# Altium schematic symbol library Passive Components.SchLib: 3 symbols
Pins are listed as number, name and electrical type; pins without a type are passive.

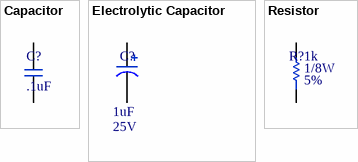
[diagram p0: symbols Capacitor to Resistor]

## Capacitor
designator C?, comment .1uF
Value: .1uF
footprint C0805N (Chip Capacitor, 2-Leads, Body 2.0x1.3mm, IPC Medium Density)
footprint C0402N (Chip Capacitor, 2-Leads, Body 1.0x0.5mm, IPC Medium Density)
footprint C0603N (Chip Capacitor, 2-Leads, Body 1.6x0.8mm, IPC Medium Density)
footprint C1206N (Chip Capacitor, 2-Leads, Body 3.2x1.6mm, IPC Medium Density)
footprint C1210N (Chip Capacitor, 2-Leads, Body 3.2x2.5mm, IPC Medium Density)
footprint C1808N (Chip Capacitor, 2-Leads, Body 4.6x2.0mm, IPC Medium Density)
footprint C1812N (Chip Capacitor, 2-Leads, Body 4.5x3.2mm, IPC Medium Density)
footprint C1825N (Chip Capacitor, 2-Leads, Body 4.5x6.4mm, IPC Medium Density)
footprint C2220N (Chip Capacitor, 2-Leads, Body 5.6x5.1mm, IPC Medium Density)
footprint C2225N (Chip Capacitor, 2-Leads, Body 5.6x6.3mm, IPC Medium Density)
footprint C3640N (Chip Capacitor, 2-Leads, Body 9.1x10.2mm, IPC Medium Density)
pins: 1, 2

## Electrolytic Capacitor
designator C?, comment value 1uF  Voltage: 25V  (hidden comment: Cap)
pins: 1, 2

## Resistor
designator R?, comment Power: 1/8W  Tolerance: 5%  (hidden comment: 1k)
Passive Resistor; Value: 1k
footprint R2512N (Chip Resistor, 2-Leads, Body 6.4x3.2mm, IPC Medium Density)
pins: 1, 2